# EAGLE library part SI9424 (library transistor-fet-vishay)
Si9424BDY - P-Channel 20-V (D-S) MOSFET Manufacture: Vishay Siliconix
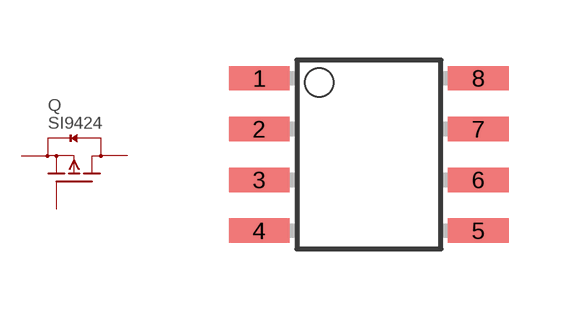
[diagram p0: symbol with the pads of SO-8; footprint SO-8]

Designator prefix Q

## SI9424BDY  [SO-8]
1  S1  pas
2  S2  pas
3  S3  pas
4  G  pas
5  D1  pas
6  D2  pas
7  D3  pas
8  D4  pas

## Footprint SO-8 (pad centres in mm)
SO 8 small outline
smd 1.524 x 0.61: 1 -2.743,1.905; 2 -2.743,0.635; 3 -2.743,-0.635; 4 -2.743,-1.905; 5 2.743,-1.905; 6 2.743,-0.635; 7 2.743,0.635; 8 2.743,1.905